# EAGLE library part A190-868.3M1 (library saw-filters-narrowband)
A190-868.3M1 Параметр Ед. изм. Мин. значение Тип. значение Макс. значение Центральная частота МГц 868.18 868.3 868.42 Минимальное вносимое затухание дБ 7.7 8.5 9 Полоса среза по уровню -3 дБ МГц 0.4 0.45 0.5 Полоса среза по уровню -40 дБ МГц 1.35 1.4 1.45 Неравномерность АЧХ дБ - 0.5 1 Групповое время задержки нс - - - Гарантированное затухание дБ - 45 - Температурный диапазон °C -55 22 +85 Материал подложки - - Кварц 36 -
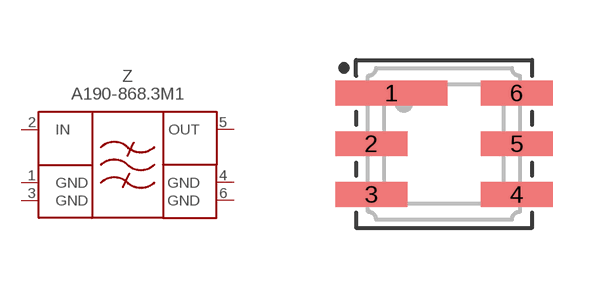
[diagram p129: symbol with the pads of 3.8SQ; footprint 3.8SQ]

Designator prefix Z

## A190-868.3M1  [3.8SQ]
1  GND  pwr
2  IN  in
3  GND  pwr
4  GND  pwr
5  OUT  out
6  GND  pwr

## Footprint 3.8SQ (pad centres in mm)
smd 2.8 x 0.62: 1 -1.32,1.27
smd 1.8 x 0.62: 2 -1.82,0; 3 -1.82,-1.27; 4 1.82,-1.27; 5 1.82,0; 6 1.82,1.27